# Altium footprint library PCB - LEADED - TSSOP-24 -PCAL9535APW,118.PCBLIB: 4 footprints
Each footprint in its own frame and in the unit in brackets; x right, y up, seen from the top. Pads: shape width x height; smd on the part's side, far side on the other; paste and mask are expansions set on the pad; w line width, h text height; cw(c..) or ccw(c..) is an arc to the next point about the centre after c.
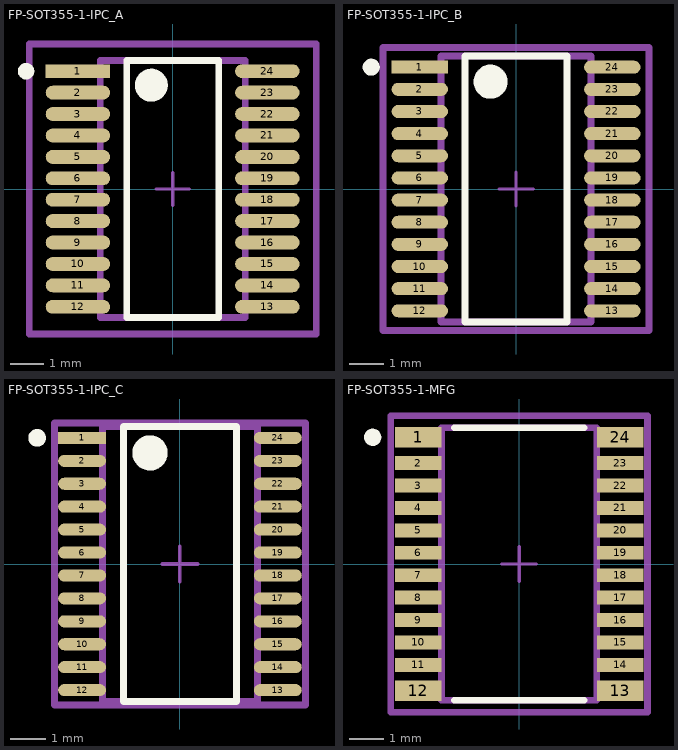
[diagram p0: the footprints below, top view; thin cyan lines are the x and y axes]

## FP-SOT355-1-IPC_A [mm]
pads (24):
  rect 1.955x0.421 smd paste+0 mask+0: 1(-2.875,3.575)
  rrect100% 1.955x0.421 smd paste+0 mask+0: 2(-2.875,2.925) 3(-2.875,2.275) 4(-2.875,1.625) 5(-2.875,0.975) 6(-2.875,0.325) 7(-2.875,-0.325) 8(-2.875,-0.975) 9(-2.875,-1.625) 10(-2.875,-2.275) 11(-2.875,-2.925) 12(-2.875,-3.575) 13(2.875,-3.575) 14(2.875,-2.925) 15(2.875,-2.275) 16(2.875,-1.625) 17(2.875,-0.975) 18(2.875,-0.325) 19(2.875,0.325) 20(2.875,0.975) 21(2.875,1.625) 22(2.875,2.275) 23(2.875,2.925) 24(2.875,3.575)
Top Overlay:
  circle w0.5: c-0.648,3.15 r0.25
  circle w0.25: c-4.45,3.575 r0.125
  lines w0.2: -1.398,-3.9 1.398,-3.9 1.398,3.9 -1.398,3.9 -1.398,-3.9
Top Assembly:
  lines w0.2: -2.2,-3.9 -2.2,3.9 2.2,3.9 2.2,-3.9 -2.2,-3.9
Top Courtyard:
  lines w0.2: -4.353,-4.4 4.353,-4.4 4.353,4.4 -4.353,4.4 -4.353,-4.4
Top Designator:
  text ".Designator" at 0,0.188 h1
Top Component Center:
  lines w0.1: -0.5,0 0.5,0 ; 0,-0.5 0,0.5
3D body "IC_NXP_Semiconductors_PCAL9535APW_118_eec.STEP": height 0.25, standoff 0, extent -4.353,-4.4 4.353,4.4

## FP-SOT355-1-IPC_B [mm]
pads (24):
  rect 1.655x0.381 smd paste+0 mask+0: 1(-2.825,3.575)
  rrect100% 1.655x0.381 smd paste+0 mask+0: 2(-2.825,2.925) 3(-2.825,2.275) 4(-2.825,1.625) 5(-2.825,0.975) 6(-2.825,0.325) 7(-2.825,-0.325) 8(-2.825,-0.975) 9(-2.825,-1.625) 10(-2.825,-2.275) 11(-2.825,-2.925) 12(-2.825,-3.575) 13(2.825,-3.575) 14(2.825,-2.925) 15(2.825,-2.275) 16(2.825,-1.625) 17(2.825,-0.975) 18(2.825,-0.325) 19(2.825,0.325) 20(2.825,0.975) 21(2.825,1.625) 22(2.825,2.275) 23(2.825,2.925) 24(2.825,3.575)
Top Overlay:
  circle w0.5: c-0.748,3.15 r0.25
  circle w0.25: c-4.25,3.575 r0.125
  lines w0.2: -1.498,-3.9 1.498,-3.9 1.498,3.9 -1.498,3.9 -1.498,-3.9
Top Assembly:
  lines w0.2: -3.903,-4.15 3.903,-4.15 3.903,4.15 -3.903,4.15 -3.903,-4.15 ; -2.2,-3.9 -2.2,3.9 2.2,3.9 2.2,-3.9 -2.2,-3.9
Top Courtyard:
  lines w0.2: -3.903,-4.15 3.903,-4.15 3.903,4.15 -3.903,4.15 -3.903,-4.15
Top Designator:
  text ".Designator" at 0,0.188 h1
Top Component Center:
  lines w0.1: -0.5,0 0.5,0 ; 0,-0.5 0,0.5
3D body "IC_NXP_Semiconductors_PCAL9535APW_118_eec.STEP": height 0.25, standoff 0, extent -3.903,-4.15 3.903,4.15

## FP-SOT355-1-IPC_C [mm]
pads (24):
  rect 1.355x0.341 smd paste+0 mask+0: 1(-2.775,3.575)
  rrect100% 1.355x0.341 smd paste+0 mask+0: 2(-2.775,2.925) 3(-2.775,2.275) 4(-2.775,1.625) 5(-2.775,0.975) 6(-2.775,0.325) 7(-2.775,-0.325) 8(-2.775,-0.975) 9(-2.775,-1.625) 10(-2.775,-2.275) 11(-2.775,-2.925) 12(-2.775,-3.575) 13(2.775,-3.575) 14(2.775,-2.925) 15(2.775,-2.275) 16(2.775,-1.625) 17(2.775,-0.975) 18(2.775,-0.325) 19(2.775,0.325) 20(2.775,0.975) 21(2.775,1.625) 22(2.775,2.275) 23(2.775,2.925) 24(2.775,3.575)
Top Overlay:
  circle w0.5: c-0.848,3.15 r0.25
  circle w0.25: c-4.05,3.575 r0.125
  lines w0.2: -1.598,-3.9 1.598,-3.9 1.598,3.9 -1.598,3.9 -1.598,-3.9
Top Assembly:
  lines w0.2: -3.553,-4 3.553,-4 3.553,4 -3.553,4 -3.553,-4 ; -2.2,-3.9 2.2,-3.9 2.2,3.9 -2.2,3.9 -2.2,-3.9
Top Courtyard:
  lines w0.2: -3.553,-4 3.553,-4 3.553,4 -3.553,4 -3.553,-4
Top Designator:
  text ".Designator" at 0,0.188 h1
Top Component Center:
  lines w0.1: -0.5,0 0.5,0 ; 0,-0.5 0,0.5
3D body "IC_NXP_Semiconductors_PCAL9535APW_118_eec.STEP": height 0.25, standoff 0, extent -3.553,-4 3.553,4

## FP-SOT355-1-MFG [mm]
pads (24):
  rect 1.35x0.6 smd paste+0 mask+0: 1(-2.925,3.675) 12(-2.925,-3.675) 13(2.925,-3.675) 24(2.925,3.675)
  rect 1.35x0.4 smd paste+0 mask+0: 2(-2.925,2.925) 3(-2.925,2.275) 4(-2.925,1.625) 5(-2.925,0.975) 6(-2.925,0.325) 7(-2.925,-0.325) 8(-2.925,-0.975) 9(-2.925,-1.625) 10(-2.925,-2.275) 11(-2.925,-2.925) 14(2.925,-2.925) 15(2.925,-2.275) 16(2.925,-1.625) 17(2.925,-0.975) 18(2.925,-0.325) 19(2.925,0.325) 20(2.925,0.975) 21(2.925,1.625) 22(2.925,2.275) 23(2.925,2.925)
Top Overlay:
  circle w0.25: c-4.25,3.675 r0.125
  lines w0.2: -1.875,-3.95 1.875,-3.95 ; -1.875,3.95 1.875,3.95
Top Assembly:
  lines w0.2: -3.725,-4.3 -3.725,4.3 3.725,4.3 3.725,-4.3 -3.725,-4.3 ; -2.25,-3.95 -2.25,3.95 2.25,3.95 2.25,-3.95 -2.25,-3.95
Top Courtyard:
  lines w0.2: -3.725,-4.3 -3.725,4.3 3.725,4.3 3.725,-4.3 -3.725,-4.3
Top Designator:
  text ".Designator" at 0,0.188 h1
Top Component Center:
  lines w0.1: -0.5,0 0.5,0 ; 0,-0.5 0,0.5
3D body "IC_NXP_Semiconductors_PCAL9535APW_118_eec.STEP": height 0.25, standoff 0, extent -3.725,-4.3 3.725,4.3